# EAGLE library part RTC_MCP7940N (library SCADA_CUSTOM_LIBRARY)
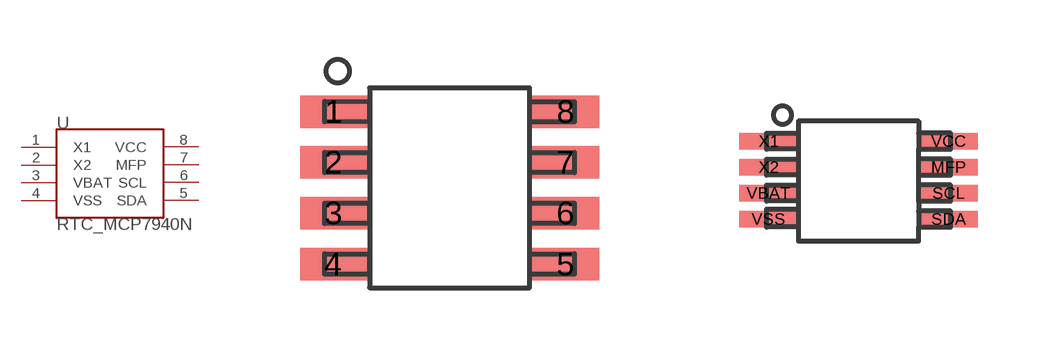
[diagram p15: symbol with the pads of 8-SOIC_HAND_SOLDER; footprints 8-SOIC_HAND_SOLDER, 8-MSOP-CUSTOM]

Designator prefix U

## RTC_MCP7940N8-SOIC  [8-SOIC_HAND_SOLDER]
1  X1  pas
2  X2  pas
3  VBAT  in
4  VSS  pas
5  SDA
6  SCL
7  MFP  out
8  VCC  pas

## RTC_MCP7940N8-MSOP  [8-MSOP-CUSTOM]
MFP  MFP  out
SCL  SCL
SDA  SDA
VBAT  VBAT  in
VCC  VCC  pas
VSS  VSS  pas
X1  X1  pas
X2  X2  pas

## Footprint 8-SOIC_HAND_SOLDER (pad centres in mm)
smd 1.676 x 0.813: 1 -2.9,1.91; 2 -2.9,0.64; 3 -2.9,-0.63; 4 -2.9,-1.91; 5 2.9,-1.91; 6 2.9,-0.63; 7 2.9,0.64; 8 2.9,1.91

## Footprint 8-MSOP-CUSTOM (pad centres in mm)
smd 1.45 x 0.42: MFP 2.25,0.35; SCL 2.25,-0.3; SDA 2.25,-0.95; VBAT -2.25,-0.3; VCC 2.25,1; VSS -2.25,-0.95; X1 -2.25,1; X2 -2.25,0.35